# Altium footprint library Varistor.PcbLib: 102 footprints (part 4 of 7)
Each footprint in its own frame and in the unit in brackets; x right, y up, seen from the top. Pads: shape width x height; smd on the part's side, far side on the other; paste and mask are expansions set on the pad; w line width, h text height; cw(c..) or ccw(c..) is an arc to the next point about the centre after c.
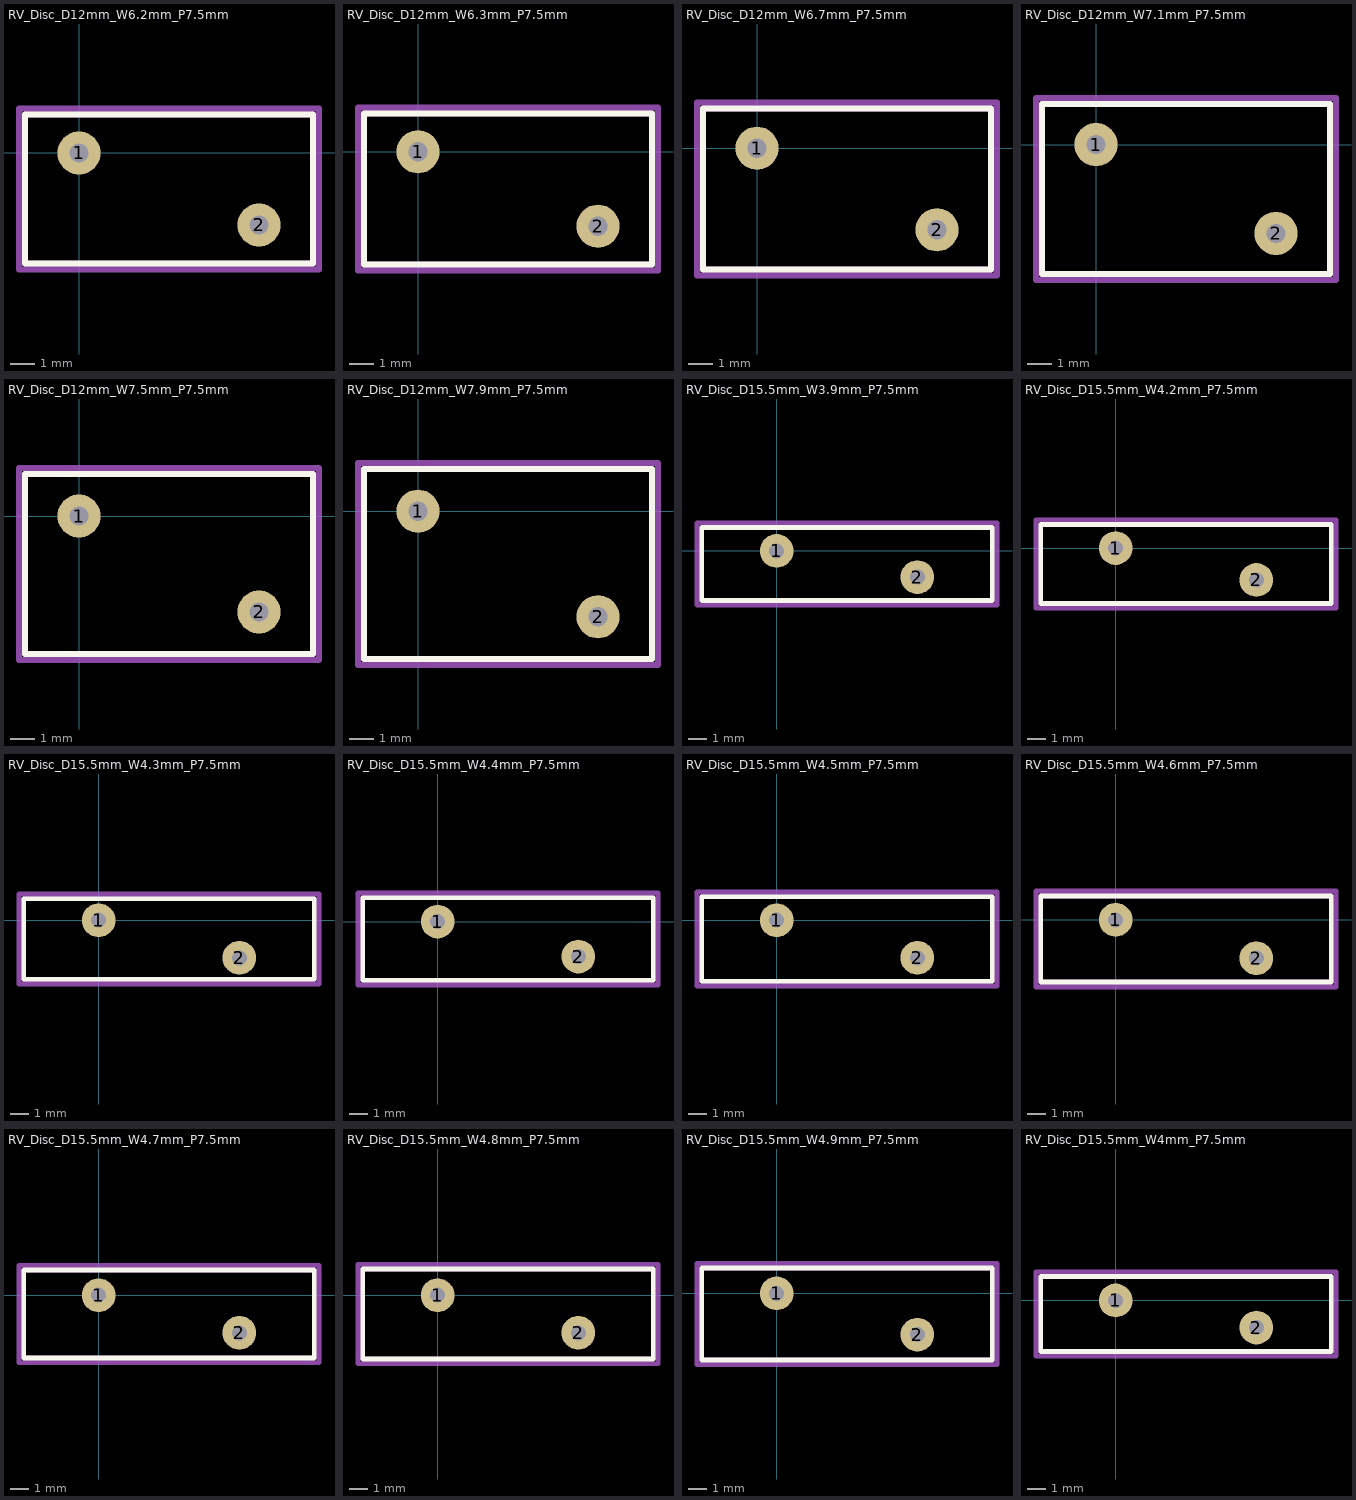
[diagram p3: the footprints below, top view; thin cyan lines are the x and y axes]

## RV_Disc_D12mm_W6.2mm_P7.5mm [mm]
pads (2):
  round 1.8 hole 0.8: 1(0,0) 2(7.5,-3)
F.SilkS:
  lines w0.254: -2.25,-4.6 -2.25,1.6 9.75,1.6 9.75,-4.6 -2.25,-4.6
F.Fab:
  lines w0.254: -2.25,-4.6 -2.25,1.6 9.75,1.6 9.75,-4.6 -2.25,-4.6
  text "'.Designator'" at -0.297,-2.34 h1
F.CrtYd:
  lines w0.254: -2.5,-4.85 -2.5,1.85 10,1.85 10,-4.85 -2.5,-4.85
3D body "RV_Disc_D12mm_W6.2mm_P7.5mm.step": height 12.03, standoff -3, extent -2.25,-4.6 9.75,1.6

## RV_Disc_D12mm_W6.3mm_P7.5mm [mm]
pads (2):
  round 1.8 hole 0.8: 1(0,0) 2(7.5,-3.1)
F.SilkS:
  lines w0.254: -2.25,-4.7 -2.25,1.6 9.75,1.6 9.75,-4.7 -2.25,-4.7
F.Fab:
  lines w0.254: -2.25,-4.7 -2.25,1.6 9.75,1.6 9.75,-4.7 -2.25,-4.7
  text "'.Designator'" at -0.297,-2.39 h1
F.CrtYd:
  lines w0.254: -2.5,-4.95 -2.5,1.85 10,1.85 10,-4.95 -2.5,-4.95
3D body "RV_Disc_D12mm_W6.3mm_P7.5mm.step": height 12.03, standoff -3, extent -2.25,-4.7 9.75,1.6

## RV_Disc_D12mm_W6.7mm_P7.5mm [mm]
pads (2):
  round 1.8 hole 0.8: 1(0,0) 2(7.5,-3.4)
F.SilkS:
  lines w0.254: -2.25,-5.05 -2.25,1.65 9.75,1.65 9.75,-5.05 -2.25,-5.05
F.Fab:
  lines w0.254: -2.25,-5.05 -2.25,1.65 9.75,1.65 9.75,-5.05 -2.25,-5.05
  text "'.Designator'" at -0.297,-2.54 h1
F.CrtYd:
  lines w0.254: -2.5,-5.3 -2.5,1.9 10,1.9 10,-5.3 -2.5,-5.3
3D body "RV_Disc_D12mm_W6.7mm_P7.5mm.step": height 12.03, standoff -3, extent -2.25,-5.05 9.75,1.65

## RV_Disc_D12mm_W7.1mm_P7.5mm [mm]
pads (2):
  round 1.8 hole 0.8: 1(0,0) 2(7.5,-3.7)
F.SilkS:
  lines w0.254: -2.25,-5.4 -2.25,1.7 9.75,1.7 9.75,-5.4 -2.25,-5.4
F.Fab:
  lines w0.254: -2.25,-5.4 -2.25,1.7 9.75,1.7 9.75,-5.4 -2.25,-5.4
  text "'.Designator'" at -0.297,-2.69 h1
F.CrtYd:
  lines w0.254: -2.5,-5.65 -2.5,1.95 10,1.95 10,-5.65 -2.5,-5.65
3D body "RV_Disc_D12mm_W7.1mm_P7.5mm.step": height 12.03, standoff -3, extent -2.25,-5.4 9.75,1.7

## RV_Disc_D12mm_W7.5mm_P7.5mm [mm]
pads (2):
  round 1.8 hole 0.8: 1(0,0) 2(7.5,-4)
F.SilkS:
  lines w0.254: -2.25,-5.75 -2.25,1.75 9.75,1.75 9.75,-5.75 -2.25,-5.75
F.Fab:
  lines w0.254: -2.25,-5.75 -2.25,1.75 9.75,1.75 9.75,-5.75 -2.25,-5.75
  text "'.Designator'" at -0.297,-2.84 h1
F.CrtYd:
  lines w0.254: -2.5,-6 -2.5,2 10,2 10,-6 -2.5,-6
3D body "RV_Disc_D12mm_W7.5mm_P7.5mm.step": height 12.03, standoff -3, extent -2.25,-5.75 9.75,1.75

## RV_Disc_D12mm_W7.9mm_P7.5mm [mm]
pads (2):
  round 1.8 hole 0.8: 1(0,0) 2(7.5,-4.4)
F.SilkS:
  lines w0.254: -2.25,-6.15 -2.25,1.75 9.75,1.75 9.75,-6.15 -2.25,-6.15
F.Fab:
  lines w0.254: -2.25,-6.15 -2.25,1.75 9.75,1.75 9.75,-6.15 -2.25,-6.15
  text "'.Designator'" at -0.297,-3.04 h1
F.CrtYd:
  lines w0.254: -2.5,-6.4 -2.5,2 10,2 10,-6.4 -2.5,-6.4
3D body "RV_Disc_D12mm_W7.9mm_P7.5mm.step": height 12.03, standoff -3, extent -2.25,-6.15 9.75,1.75

## RV_Disc_D15.5mm_W3.9mm_P7.5mm [mm]
pads (2):
  round 1.8 hole 0.8: 1(0,0) 2(7.5,-1.4)
F.SilkS:
  lines w0.254: -4,-2.65 -4,1.25 11.5,1.25 11.5,-2.65 -4,-2.65
F.Fab:
  lines w0.254: -4,-2.65 -4,1.25 11.5,1.25 11.5,-2.65 -4,-2.65
  text "'.Designator'" at -0.297,-1.54 h1
F.CrtYd:
  lines w0.254: -4.25,-2.9 -4.25,1.5 11.75,1.5 11.75,-2.9 -4.25,-2.9
3D body "RV_Disc_D15.5mm_W3.9mm_P7.5mm.step": height 15.53, standoff -3, extent -4,-2.65 11.5,1.25

## RV_Disc_D15.5mm_W4.2mm_P7.5mm [mm]
pads (2):
  round 1.8 hole 0.8: 1(0,0) 2(7.5,-1.7)
F.SilkS:
  lines w0.254: -4,-2.95 -4,1.25 11.5,1.25 11.5,-2.95 -4,-2.95
F.Fab:
  lines w0.254: -4,-2.95 -4,1.25 11.5,1.25 11.5,-2.95 -4,-2.95
  text "'.Designator'" at -0.297,-1.69 h1
F.CrtYd:
  lines w0.254: -4.25,-3.2 -4.25,1.5 11.75,1.5 11.75,-3.2 -4.25,-3.2
3D body "RV_Disc_D15.5mm_W4.2mm_P7.5mm.step": height 15.53, standoff -3, extent -4,-2.95 11.5,1.25

## RV_Disc_D15.5mm_W4.3mm_P7.5mm [mm]
pads (2):
  round 1.8 hole 0.8: 1(0,0) 2(7.5,-2)
F.SilkS:
  lines w0.254: -4,-3.15 -4,1.15 11.5,1.15 11.5,-3.15 -4,-3.15
F.Fab:
  lines w0.254: -4,-3.15 -4,1.15 11.5,1.15 11.5,-3.15 -4,-3.15
  text "'.Designator'" at -0.297,-1.84 h1
F.CrtYd:
  lines w0.254: -4.25,-3.4 -4.25,1.4 11.75,1.4 11.75,-3.4 -4.25,-3.4
3D body "RV_Disc_D15.5mm_W4.3mm_P7.5mm.step": height 15.53, standoff -3, extent -4,-3.15 11.5,1.15

## RV_Disc_D15.5mm_W4.4mm_P7.5mm [mm]
pads (2):
  round 1.8 hole 0.8: 1(0,0) 2(7.5,-1.867)
F.SilkS:
  lines w0.254: -4,-3.133 -4,1.267 11.5,1.267 11.5,-3.133 -4,-3.133
F.Fab:
  lines w0.254: -4,-3.133 -4,1.267 11.5,1.267 11.5,-3.133 -4,-3.133
  text "'.Designator'" at -0.297,-1.773 h1
F.CrtYd:
  lines w0.254: -4.25,-3.38 -4.25,1.52 11.75,1.52 11.75,-3.38 -4.25,-3.38
3D body "RV_Disc_D15.5mm_W4.4mm_P7.5mm.step": height 15.53, standoff -3, extent -4,-3.133 11.5,1.267

## RV_Disc_D15.5mm_W4.5mm_P7.5mm [mm]
pads (2):
  round 1.8 hole 0.8: 1(0,0) 2(7.5,-2)
F.SilkS:
  lines w0.254: -4,-3.25 -4,1.25 11.5,1.25 11.5,-3.25 -4,-3.25
F.Fab:
  lines w0.254: -4,-3.25 -4,1.25 11.5,1.25 11.5,-3.25 -4,-3.25
  text "'.Designator'" at -0.297,-1.84 h1
F.CrtYd:
  lines w0.254: -4.25,-3.5 -4.25,1.5 11.75,1.5 11.75,-3.5 -4.25,-3.5
3D body "RV_Disc_D15.5mm_W4.5mm_P7.5mm.step": height 15.53, standoff -3, extent -4,-3.25 11.5,1.25

## RV_Disc_D15.5mm_W4.6mm_P7.5mm [mm]
pads (2):
  round 1.8 hole 0.8: 1(0,0) 2(7.5,-2.05)
F.SilkS:
  lines w0.254: -4,-3.325 -4,1.275 11.5,1.275 11.5,-3.325 -4,-3.325
F.Fab:
  lines w0.254: -4,-3.325 -4,1.275 11.5,1.275 11.5,-3.325 -4,-3.325
  text "'.Designator'" at -0.297,-1.865 h1
F.CrtYd:
  lines w0.254: -4.25,-3.58 -4.25,1.53 11.75,1.53 11.75,-3.58 -4.25,-3.58
3D body "RV_Disc_D15.5mm_W4.6mm_P7.5mm.step": height 15.53, standoff -3, extent -4,-3.325 11.5,1.275

## RV_Disc_D15.5mm_W4.7mm_P7.5mm [mm]
pads (2):
  round 1.8 hole 0.8: 1(0,0) 2(7.5,-2)
F.SilkS:
  lines w0.254: -4,-3.35 -4,1.35 11.5,1.35 11.5,-3.35 -4,-3.35
F.Fab:
  lines w0.254: -4,-3.35 -4,1.35 11.5,1.35 11.5,-3.35 -4,-3.35
  text "'.Designator'" at -0.297,-1.84 h1
F.CrtYd:
  lines w0.254: -4.25,-3.6 -4.25,1.6 11.75,1.6 11.75,-3.6 -4.25,-3.6
3D body "RV_Disc_D15.5mm_W4.7mm_P7.5mm.step": height 15.53, standoff -3, extent -4,-3.35 11.5,1.35

## RV_Disc_D15.5mm_W4.8mm_P7.5mm [mm]
pads (2):
  round 1.8 hole 0.8: 1(0,0) 2(7.5,-2)
F.SilkS:
  lines w0.254: -4,-3.4 -4,1.4 11.5,1.4 11.5,-3.4 -4,-3.4
F.Fab:
  lines w0.254: -4,-3.4 -4,1.4 11.5,1.4 11.5,-3.4 -4,-3.4
  text "'.Designator'" at -0.297,-1.84 h1
F.CrtYd:
  lines w0.254: -4.25,-3.65 -4.25,1.65 11.75,1.65 11.75,-3.65 -4.25,-3.65
3D body "RV_Disc_D15.5mm_W4.8mm_P7.5mm.step": height 15.53, standoff -3, extent -4,-3.4 11.5,1.4

## RV_Disc_D15.5mm_W4.9mm_P7.5mm [mm]
pads (2):
  round 1.8 hole 0.8: 1(0,0) 2(7.5,-2.2)
F.SilkS:
  lines w0.254: -4,-3.55 -4,1.35 11.5,1.35 11.5,-3.55 -4,-3.55
F.Fab:
  lines w0.254: -4,-3.55 -4,1.35 11.5,1.35 11.5,-3.55 -4,-3.55
  text "'.Designator'" at -0.297,-1.94 h1
F.CrtYd:
  lines w0.254: -4.25,-3.8 -4.25,1.6 11.75,1.6 11.75,-3.8 -4.25,-3.8
3D body "RV_Disc_D15.5mm_W4.9mm_P7.5mm.step": height 15.53, standoff -3, extent -4,-3.55 11.5,1.35

## RV_Disc_D15.5mm_W4mm_P7.5mm [mm]
pads (2):
  round 1.8 hole 0.8: 1(0,0) 2(7.5,-1.45)
F.SilkS:
  lines w0.254: -4,-2.725 -4,1.275 11.5,1.275 11.5,-2.725 -4,-2.725
F.Fab:
  lines w0.254: -4,-2.725 -4,1.275 11.5,1.275 11.5,-2.725 -4,-2.725
  text "'.Designator'" at -0.297,-1.565 h1
F.CrtYd:
  lines w0.254: -4.25,-2.98 -4.25,1.53 11.75,1.53 11.75,-2.98 -4.25,-2.98
3D body "RV_Disc_D15.5mm_W4mm_P7.5mm.step": height 15.53, standoff -3, extent -4,-2.725 11.5,1.275